# Altium schematic symbol library STMPS2141STR.SchLib: 1 symbol
Pins are listed as number, name and electrical type; pins without a type are passive.

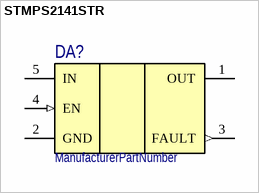
[diagram p0: symbol STMPS2141STR]

## STMPS2141STR
designator DA?  (value not drawn)
ManufacturerPartNumber: ManufacturerPartNumber
pins: 1 OUT, 2 GND (power), 3 FAULT (out), 4 EN (in), 5 IN